# Altium footprint library PcbLib1.PcbLib: 13 footprints
Each footprint in its own frame and in the unit in brackets; x right, y up, seen from the top. Pads: shape width x height; smd on the part's side, far side on the other; paste and mask are expansions set on the pad; w line width, h text height; cw(c..) or ccw(c..) is an arc to the next point about the centre after c.
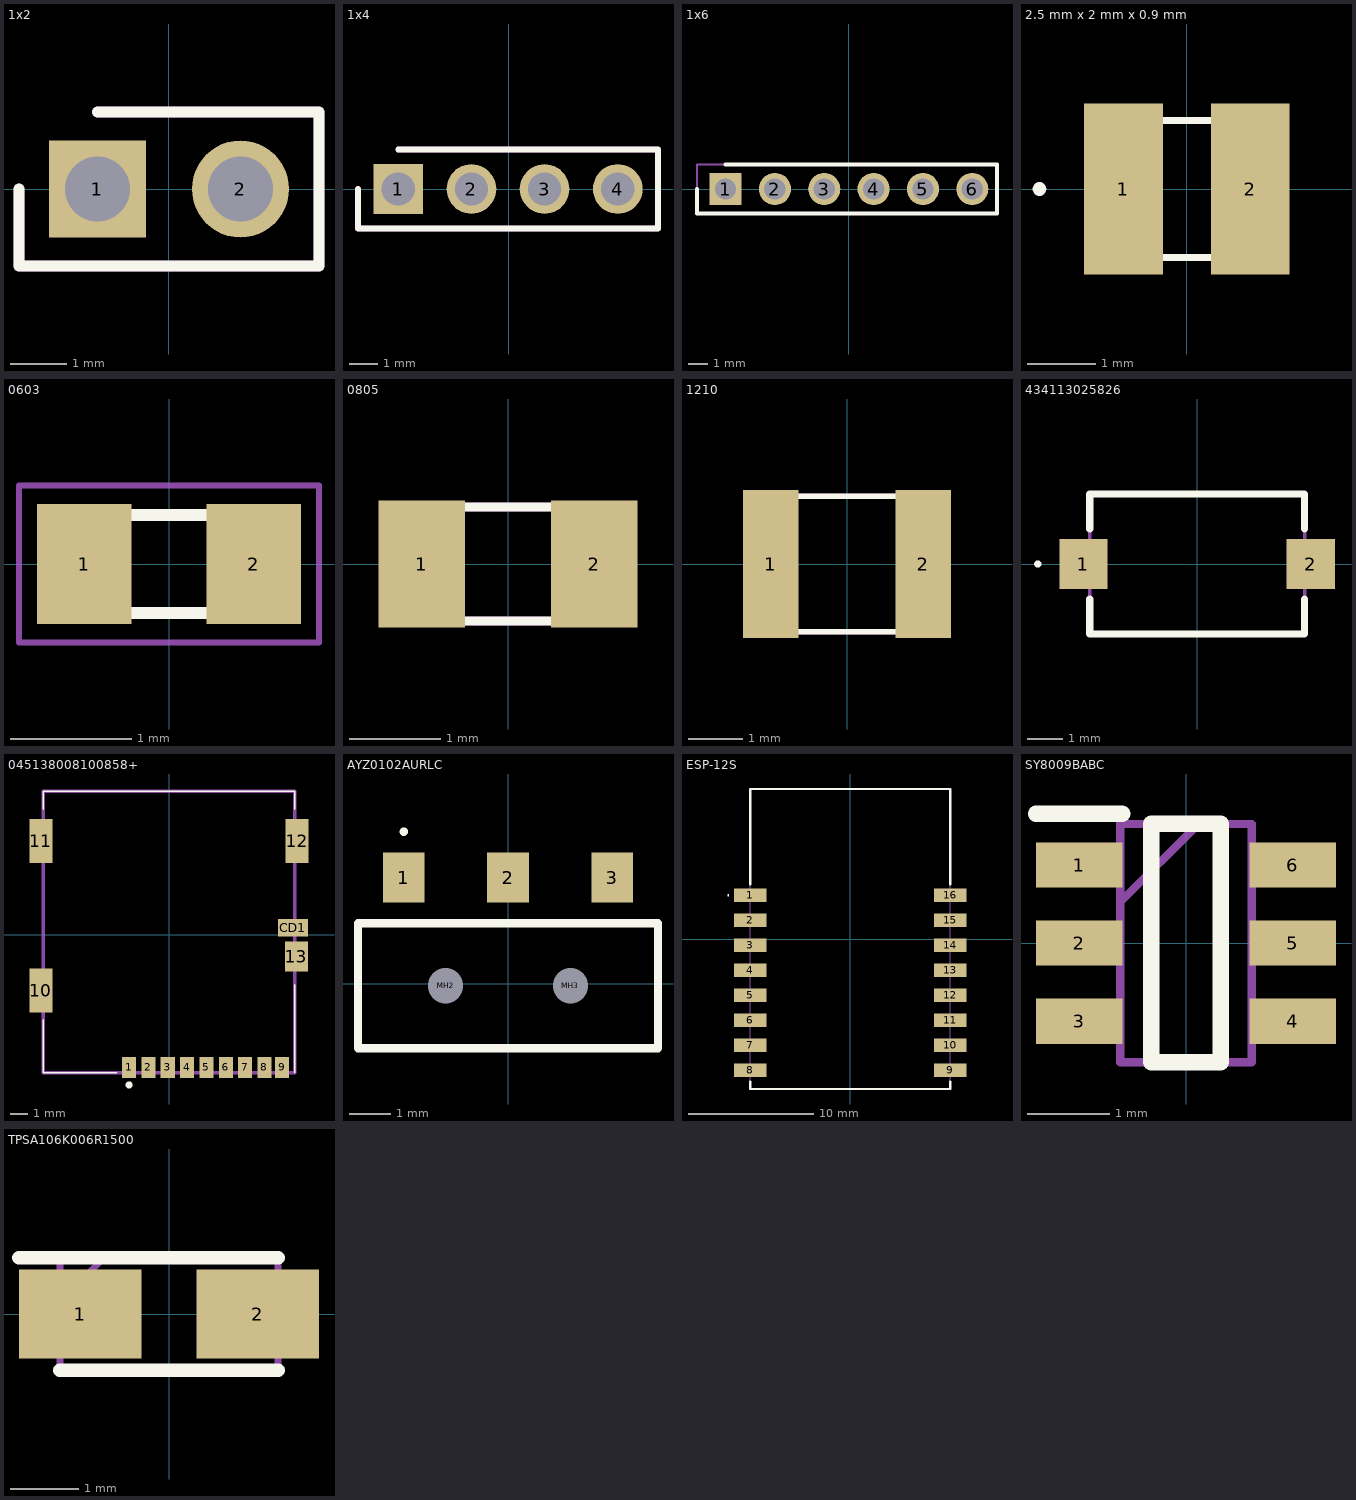
[diagram p0: the footprints below, top view; thin cyan lines are the x and y axes]

## 1x2 [mm]
pads (2):
  rect 1.725x1.725 hole 1.15: 1(-1.27,0)
  round 1.725 hole 1.15: 2(1.27,0)
Top Overlay:
  lines w0.2: -2.665,0 -2.665,-1.37 2.667,-1.37 2.667,1.37 -1.27,1.37
Mechanical 13:
  lines w0.2: -2.665,0 -2.665,-1.37 2.667,-1.37 2.667,1.37 -1.27,1.37
  text "'.Designator'" at -0.408,-1.212 h0.25

## 1x4 [mm]
pads (4):
  rect 1.725x1.725 hole 1.15: 1(-3.835,0)
  round 1.725 hole 1.15: 2(-1.295,0) 3(1.245,0) 4(3.785,0)
Top Overlay:
  lines w0.2: -5.23,0 -5.23,-1.37 5.18,-1.37 5.18,1.37 -3.835,1.37
Mechanical 13:
  lines w0.2: -5.23,0 -5.23,-1.37 5.18,-1.37 5.18,1.37 -3.835,1.37
  text "'.Designator'" at 0.608,-1.085 h0.25
3D body "22-28-4042.stp": height 9.59, standoff -3.24, extent -5.105,-1.219 5.055,1.27

## 1x6 [mm]
pads (6):
  rect 1.65x1.65 hole 1.1: 1(-6.35,0)
  round 1.65 hole 1.1: 2(-3.81,0) 3(-1.27,0) 4(1.27,0) 5(3.81,0) 6(6.35,0)
Top Overlay:
  lines w0.2: -7.82,0 -7.82,-1.27 7.62,-1.27 7.62,1.27 -6.35,1.27
Mechanical 13:
  lines w0.1: -7.82,-1.27 -7.82,1.27 7.62,1.27 7.62,-1.27 -7.82,-1.27
  text "'.Designator'" at 1.497,-1.085 h0.25

## 2.5 mm x 2 mm x 0.9 mm [mm]
pads (2):
  rect 1.15x2.5 smd: 1(-0.925,0) 2(0.925,0)
Top Overlay:
  lines w0.1: -2.2,0 ccw(c-2.15,0) -2.1,0 ccw(c-2.15,0) -2.2,0 ; -1.25,-1 1.25,-1 1.25,1 -1.25,1 -1.25,-1
Mechanical 13:
  lines w0.1: -1.25,-1 1.25,-1 1.25,1 -1.25,1 -1.25,-1
  text "'.Designator'" at -1.424,-1.085 h0.25
3D body "SRN2510BTA-2R2M.stp": height 0.96, standoff 0, extent -1.301,-1.075 1.301,1.075

## 0603 [mm]
pads (2):
  rect 0.78x0.99 smd: 1(-0.7,0) 2(0.7,0)
Top Overlay:
  lines w0.1: -0.8,-0.405 -0.8,0.405 0.8,0.405 0.8,-0.405 -0.8,-0.405
Mechanical 13:
  lines w0.1: -0.8,-0.405 -0.8,0.405 0.8,0.405 0.8,-0.405 -0.8,-0.405
  text "'.Designator'" at -1.043,-0.45 h0.25
Mechanical 15:
  lines w0.05: -1.24,-0.65 -1.24,0.65 1.24,0.65 1.24,-0.65 -1.24,-0.65
3D body "06035C104K4T4A.stp": height 0.9, standoff 0, extent -0.8,-0.405 0.8,0.405

## 0805 [mm]
pads (2):
  rect 0.95x1.4 smd: 1(-0.95,0) 2(0.95,0)
Top Overlay:
  lines w0.1: -1,-0.625 -1,0.625 1,0.625 1,-0.625 -1,-0.625
Mechanical 13:
  lines w0.1: -1,-0.625 -1,0.625 1,0.625 1,-0.625 -1,-0.625
  text "'.Designator'" at -1.424,-0.577 h0.25
3D body "RC0805FR-071KL.stp": height 0.6, standoff 0, extent -1,-0.625 1,0.625

## 1210 [mm]
pads (2):
  rect 1.02x2.72 smd: 1(-1.4,0) 2(1.4,0)
Top Overlay:
  lines w0.1: -1.6,-1.25 -1.6,1.25 1.6,1.25 1.6,-1.25 -1.6,-1.25
Mechanical 13:
  lines w0.1: -1.6,-1.25 -1.6,1.25 1.6,1.25 1.6,-1.25 -1.6,-1.25
  text "'.Designator'" at -1.805,-1.085 h0.25
3D body "12103D476MAT2A.stp": height 2.79, standoff 0, extent -1.6,-1.25 1.6,1.25

## 434113025826 [mm]
pads (2):
  rect 1.35x1.4 smd: 1(-3.175,0) 2(3.175,0)
Top Overlay:
  lines w0.1: -4.5,0 cw(c-4.45,0) -4.4,0 cw(c-4.45,0) -4.5,0
  lines w0.2: -3,-0.975 -3,-1.95 3,-1.95 3,-0.975 ; -3,0.975 -3,1.95 3,1.95 3,0.975
Mechanical 13:
  lines w0.1: -3,-1.95 3,-1.95 3,1.95 -3,1.95 -3,-1.95
  text "'.Designator'" at -1.297,-0.196 h0.25
3D body "434113025826.stp": height 2.75, standoff 0, extent -3.715,-1.95 3.715,1.95

## 045138008100858+ [mm]
pads (14):
  rect 0.8x1.2 smd: 1(-2.27,-7.55) 2(-1.17,-7.55) 3(-0.07,-7.55) 4(1.03,-7.55) 5(2.13,-7.55) 6(3.23,-7.55) 7(4.33,-7.55) 8(5.43,-7.55) 9(6.43,-7.55)
  rect 1.3x2.5 smd: 10(-7.28,-3.19) 11(-7.28,5.31) 12(7.28,5.31)
  rect 1.3x1.7 smd: 13(7.25,-1.25)
  rect 1.7x1 smd: CD1(7.05,0.4)
Top Overlay:
  lines w0.1: -7.15,-4.85 -7.15,-7.85 -2.97,-7.85 ; -7.15,7.15 -7.15,8.15 7.15,8.15 7.15,7.15 ; 7.15,-7.85 7.15,-6.35 7.15,-2.85
  lines w0.2: -2.37,-8.55 ccw(c-2.27,-8.55) -2.17,-8.55 ccw(c-2.27,-8.55) -2.37,-8.55
Mechanical 13:
  lines w0.2: -7.15,-7.85 7.15,-7.85 7.15,8.15 -7.15,8.15 -7.15,-7.85
  text "'.Designator'" at -6.25,-7.308 h0.25
3D body "045138008100858+.stp": height 1.65, standoff 0, extent -7.5,-7.88 7.5,8.62

## AYZ0102AURLC [mm]
pads (5):
  rect 1x1.2 smd: 1(-2.5,2.55) 2(0,2.55) 3(2.5,2.55)
  round 0.425 hole 0.85 unplated: MH2(-1.5,-0.05) MH3(1.5,-0.05)
Top Overlay:
  lines w0.1: -2.5,3.6 cw(c-2.5,3.65) -2.5,3.7 cw(c-2.5,3.65) -2.5,3.6
  lines w0.2: -3.6,-1.55 -3.6,1.45 3.6,1.45 3.6,-1.55 -3.6,-1.55
Mechanical 13:
  lines w0.1: -3.6,-1.55 -3.6,1.45 3.6,1.45 3.6,-1.55 -3.6,-1.55
  text "'.Designator'" at -1.424,-0.831 h0.25
3D body "AYZ0102AURLC.stp": height 1.51, standoff -0.49, extent -3.6,-2.54 3.6,2.75

## ESP-12S [mm]
pads (16):
  rect 2.6x1.1 smd: 1(-8,3.5) 2(-8,1.5) 3(-8,-0.5) 4(-8,-2.5) 5(-8,-4.5) 6(-8,-6.5) 7(-8,-8.5) 8(-8,-10.5) 9(8,-10.5) 10(8,-8.5) 11(8,-6.5) 12(8,-4.5) 13(8,-2.5) 14(8,-0.5) 15(8,1.5) 16(8,3.5)
Top Overlay:
  lines w0.1: -9.8,3.5 cw(c-9.75,3.5) -9.7,3.5 cw(c-9.75,3.5) -9.8,3.5
  lines w0.2: -8,-11.4 -8,-12 8,-12 8,-11.4 ; -8,4.4 -8,12 8,12 8,4.4
Mechanical 13:
  lines w0.1: -8,-12 -8,12 8,12 8,-12 -8,-12
  text "'.Designator'" at -0.916,-4.768 h0.25
3D body "ESP-12S.stp": height 3.11, standoff -0.01, extent -8,-12 8,12

## SY8009BABC [mm]
pads (6):
  rect 1.05x0.55 smd: 1(-1.3,0.95) 2(-1.3,0) 3(-1.3,-0.95) 4(1.3,-0.95) 5(1.3,0) 6(1.3,0.95)
Top Overlay:
  lines w0.2: -1.825,1.575 -0.775,1.575 ; -0.425,-1.45 -0.425,1.45 0.425,1.45 0.425,-1.45 -0.425,-1.45
Mechanical 13:
  lines w0.1: -0.8,0.5 0.15,1.45 ; -0.8,-1.45 -0.8,1.45 0.8,1.45 0.8,-1.45 -0.8,-1.45
  text "'.Designator'" at -0.408,-0.577 h0.25
3D body "AP22615AWU-7.stp": height 1, standoff 0, extent -1.4,-1.45 1.4,1.45

## TPSA106K006R1500 [mm]
pads (2):
  rect 1.8x1.3 smd: 1(-1.3,0) 2(1.3,0)
Top Overlay:
  lines w0.2: -2.2,0.825 1.6,0.825 ; -1.6,-0.825 1.6,-0.825
Mechanical 13:
  lines w0.1: -1.6,0.175 -0.95,0.825 ; -1.6,-0.825 1.6,-0.825 1.6,0.825 -1.6,0.825 -1.6,-0.825
  text "'.Designator'" at -0.789,-0.196 h0.25
3D body "TPSA106K006R1500.stp": height 1.8, standoff 0, extent -1.6,-0.825 1.6,0.825